# Altium footprint library CN_DIN41612F_0906148x951.PcbLib: 1 footprints
Each footprint in its own frame and in the unit in brackets; x right, y up, seen from the top. Pads: shape width x height; smd on the part's side, far side on the other; paste and mask are expansions set on the pad; w line width, h text height; cw(c..) or ccw(c..) is an arc to the next point about the centre after c.
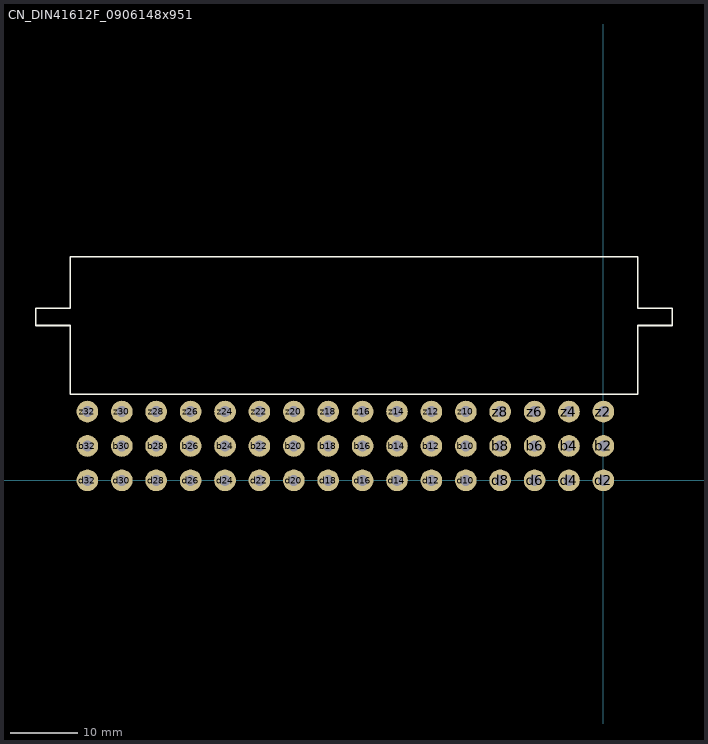
[diagram p0: the footprint, top view; thin cyan lines are the x and y axes]

## CN_DIN41612F_0906148x951 [mm] "Connector; DIN 41612, Type F, Thru-Hole; Rows z+b+d, 48 Position; Right Angle"
height 14.8
pads (48):
  round 3.2 hole 1.6: b2(0,5.08) b4(-5.08,5.08) b6(-10.16,5.08) b8(-15.24,5.08) b10(-20.32,5.08) b12(-25.4,5.08) b14(-30.48,5.08) b16(-35.56,5.08) b18(-40.64,5.08) b20(-45.72,5.08) b22(-50.8,5.08) b24(-55.88,5.08) b26(-60.96,5.08) b28(-66.04,5.08) b30(-71.12,5.08) b32(-76.2,5.08) d2(0,0) d4(-5.08,0) d6(-10.16,0) d8(-15.24,0) d10(-20.32,0) d12(-25.4,0) d14(-30.48,0) d16(-35.56,0) d18(-40.64,0) d20(-45.72,0) d22(-50.8,0) d24(-55.88,0) d26(-60.96,0) d28(-66.04,0) d30(-71.12,0) d32(-76.2,0) z2(0,10.16) z4(-5.08,10.16) z6(-10.16,10.16) z8(-15.24,10.16) z10(-20.32,10.16) z12(-25.4,10.16) z14(-30.48,10.16) z16(-35.56,10.16) z18(-40.64,10.16) z20(-45.72,10.16) z22(-50.8,10.16) z24(-55.88,10.16) z26(-60.96,10.16) z28(-66.04,10.16) z30(-71.12,10.16) z32(-76.2,10.16)
Top Overlay:
  lines w0.254: -83.82,22.86 -78.74,22.86 -78.74,12.7 -76.2,12.7 0,12.7 5.08,12.7 5.08,20.32 5.08,22.86 10.16,22.86 10.16,25.4 5.08,25.4 5.08,33.02 -78.74,33.02 -78.74,25.4 -81.28,25.4 -83.82,25.4 -83.82,22.86
3D body: height 14.75, standoff -2.8, extent -84.23,-0.5 10.57,32.56